# EAGLE library part DS3231_RTC_MODULE (library DS3231_RTC)
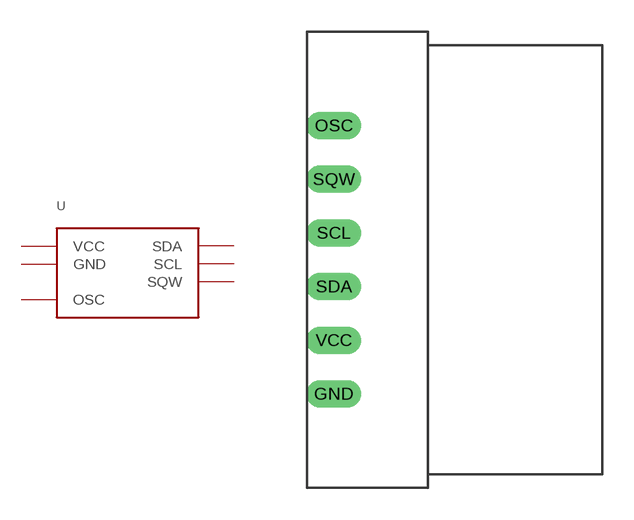
[diagram p0: symbol with the pads of 6P_HEADER; footprint 6P_HEADER]

Designator prefix -

## DS3231_RTC_MODULE  [6P_HEADER]
GND  GND
OSC  OSC
SCL  SCL
SDA  SDA
SQW  SQW
VCC  VCC

## Footprint 6P_HEADER (pad centres in mm)
drill 0.8 long: GND 0,-6.35; OSC 0,6.35; SCL 0,1.27; SDA 0,-1.27; SQW 0,3.81; VCC 0,-3.81